# Altium schematic symbol library Ultrascale_SchLib.SchLib: 183 symbols (part 1 of 4)
Pins are listed as number, name and electrical type; pins without a type are passive.

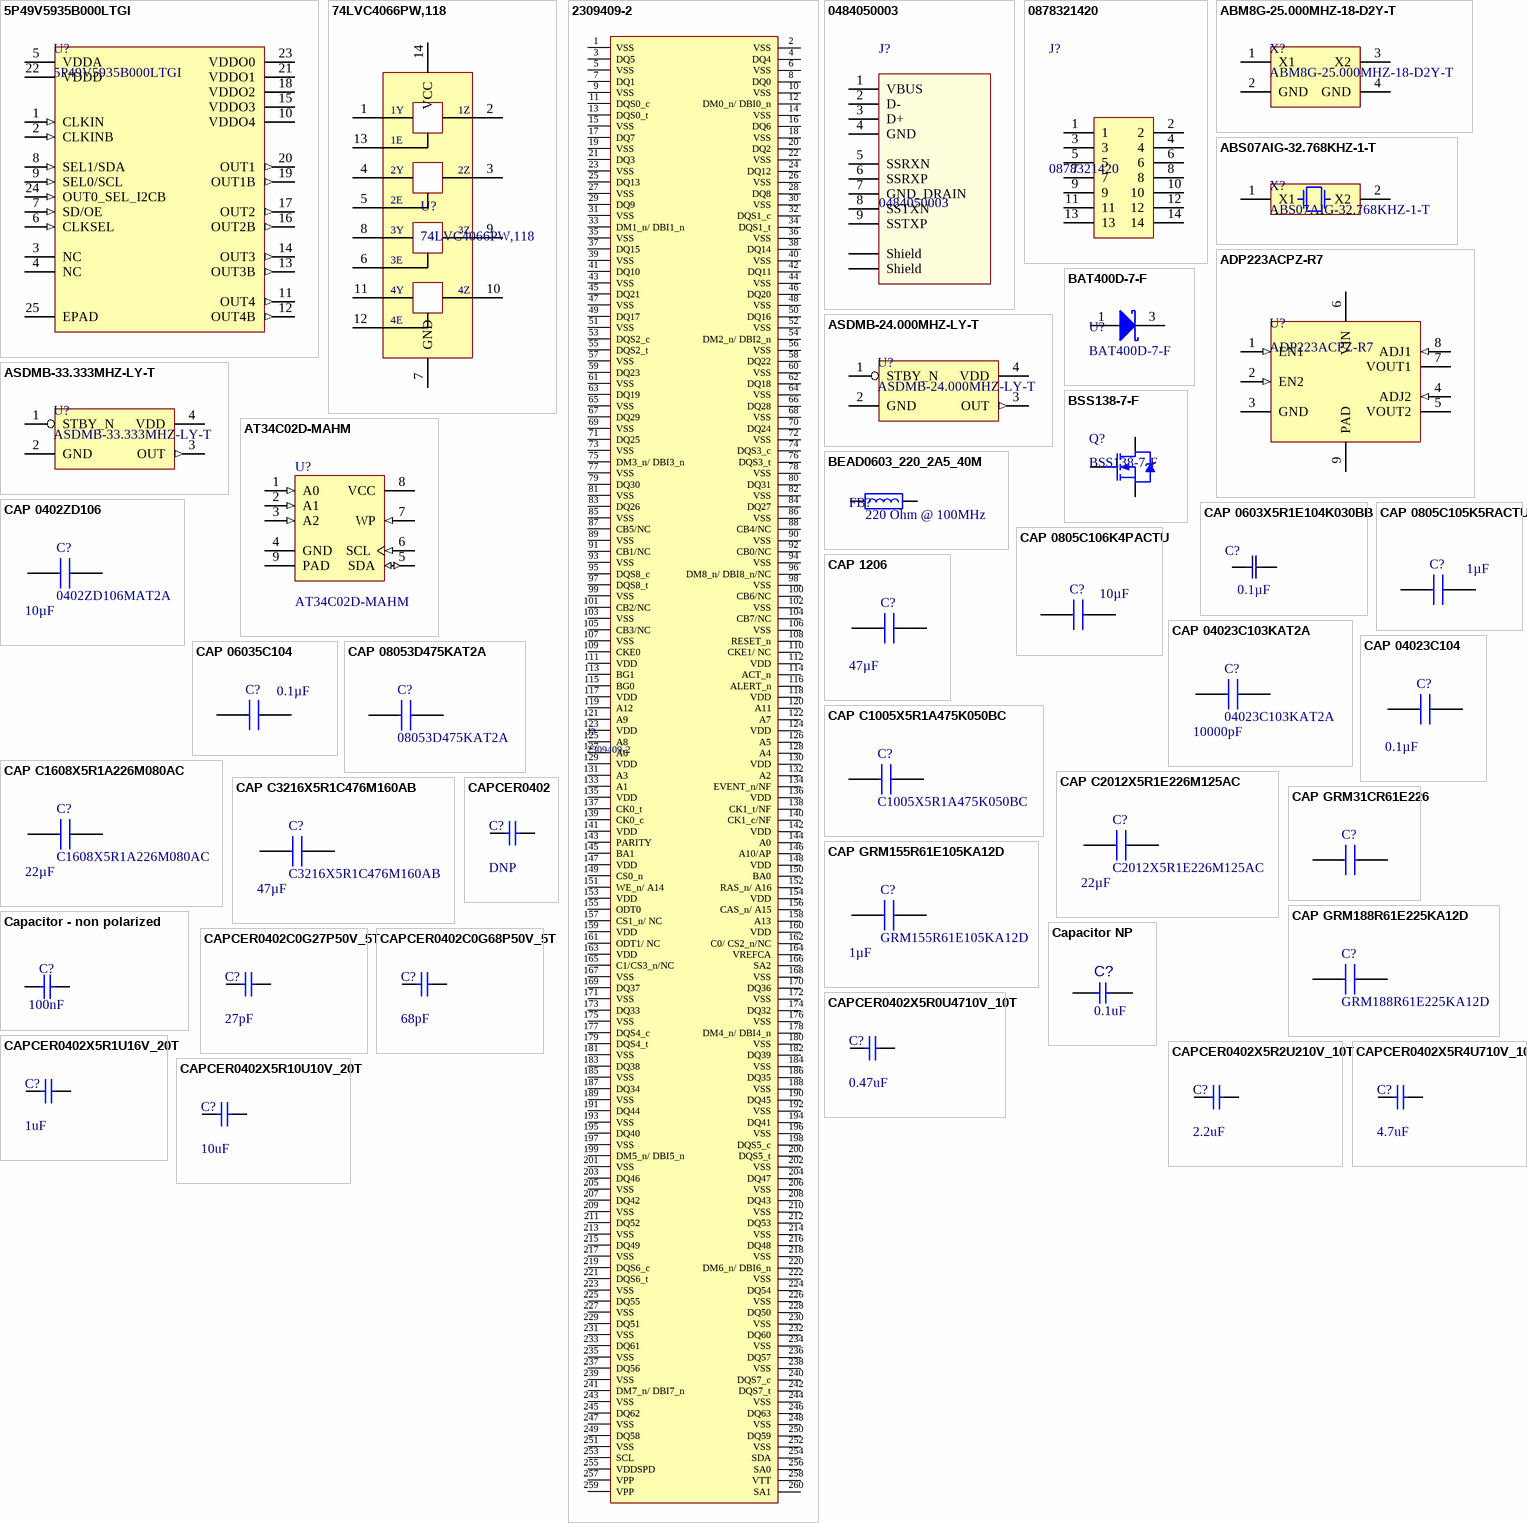
[diagram p0: symbols 5P49V5935B000LTGI to CAPCER0402X5R10U10V_20T]

## 5P49V5935B000LTGI
designator U?
IC CLOCK GENERATOR 24LGA; Manufacturer 1: IDT, Integrated Device Technology Inc; ComponentLink1Description: Datasheet; ComponentLink1URL: C:\Users\Public\Documents\Altium\AD16\Library\PDF\IDT_5P49V5935_DST_20171101.pdf; Supplier 1: Digi-Key; Supplier Part Number 1: 800-3409-ND; Manufacturer Part Number 1: 5P49V5935B000LTGI; Operating Temperature: -40°C ~ 85°C
footprint LGA24_5P49V5935B000LTGI (IDT, IC CLOCK GENERATOR 24LGA, 4mmx4mm)
pins: 1 CLKIN (in), 2 CLKINB (in), 3 NC, 4 NC, 5 VDDA, 6 CLKSEL (in), 7 SD/OE (in), 8 SEL1/SDA (in), 9 SEL0/SCL (in), 10 VDDO4, 11 OUT4 (out), 12 OUT4B (out), 13 OUT3B (out), 14 OUT3 (out), 15 VDDO3, 16 OUT2B (out), 17 OUT2 (out), 18 VDDO2, 19 OUT1B (out), 20 OUT1 (out), 21 VDDO1, 22 VDDD, 23 VDDO0, 24 OUT0_SEL_I2CB (in), 25 EPAD

## 74LVC4066PW,118
designator U?
IC SWITCH QUAD SPST 14TSSOP; Manufacturer: Nexperia USA Inc.; Switch Circuit: SPST - NO; Multiplexer/Demultiplexer Circuit: 1:1; On-State Resistance (Max): 10 Ohm; Voltage - Supply, Single (V+): 1.65 V ~ 5.5 V; Switch Time (Ton, Toff) (Max): 3.9ns, 5ns; -3db Bandwidth: 500MHz; Charge Injection: 7.5pC; Channel Capacitance (CS(off), CD(off)): 8pF; Current - Leakage (IS(off)) (Max): 5µA; Crosstalk: -56dB @ 1MHz; Supplier 1: Digi-Key; Manufacturer Part Number: 74LVC4066PW,118; RoHS: RoHS Compliant; Category: Integrated Circuits (ICs); Stock 1: 12914; Pricing 1: 1=0.78, 10=0.687, 100=0.5266, 500=0.41632, 1000=0.33306 (USD); Packaging: Cut Tape (CT); Part Status: Active; Channel-to-Channel Matching (&Delta;Ron): -; Voltage - Supply, Dual (V±): -; Operating Temperature: -40°C ~ 125°C (TA); Package / Case: 14-TSSOP (0.173", 4.40mm Width); Supplier Device Package: 14-TSSOP; ComponentLink1URL: http://assets.nexperia.com/documents/data-sheet/74LVC4066.pdf; ComponentLink1Description: http://assets.nexperia.com/documents/data-sheet/74LVC4066.pdf; Supplier Part Number 1: 1727-7306-1-ND
pins: 1 (power), 2 (power), 3 (power), 4 (power), 5 (power), 6 (power), 7 GND (power), 8 (power), 9 (power), 10 (power), 11 (power), 12 (power), 13 (power), 14 VCC (power)
text: 1Y; 1Z; 1E; 2Y; 2Z; 2E; 3Y; 3Z; 3E; 4Y; 4Z; 4E

## 2309409-2
designator J?
DDR4 SODIMM 260P 5.2H STD; ComponentLink1Description: Datasheet; ComponentLink1URL: C:\Users\Public\Documents\Altium\AD16\Library\PDF\ENG_CD_2309409_3.pdf; Operating Temperature: -55 – 85 °C; Height: 5.2mm
footprint DDR4_SODIMM_MATING (REF: TE 2309409-4)
pins: 1 VSS (power), 2 VSS (power), 3 DQ5 (power), 4 DQ4 (power), 5 VSS (power), 6 VSS (power), 7 DQ1 (power), 8 DQ0 (power), 9 VSS (power), 10 VSS (power), 11 DQS0_c (power), 12 DM0_n/ DBI0_n (power), 13 DQS0_t (power), 14 VSS (power), 15 VSS (power), 16 DQ6 (power), 17 DQ7 (power), 18 VSS (power), 19 VSS (power), 20 DQ2 (power), 21 DQ3 (power), 22 VSS (power), 23 VSS (power), 24 DQ12 (power), 25 DQ13 (power), 26 VSS (power), 27 VSS (power), 28 DQ8 (power), 29 DQ9 (power), 30 VSS (power), 31 VSS (power), 32 DQS1_c (power), 33 DM1_n/ DBI1_n (power), 34 DQS1_t (power), 35 VSS (power), 36 VSS (power), 37 DQ15 (power), 38 DQ14 (power), 39 VSS (power), 40 VSS (power), 41 DQ10 (power), 42 DQ11 (power), 43 VSS (power), 44 VSS (power), 45 DQ21 (power), 46 DQ20 (power), 47 VSS (power), 48 VSS (power), 49 DQ17 (power), 50 DQ16 (power), 51 VSS (power), 52 VSS (power), 53 DQS2_c (power), 54 DM2_n/ DBI2_n (power), 55 DQS2_t (power), 56 VSS (power), 57 VSS (power), 58 DQ22 (power), 59 DQ23 (power), 60 VSS (power), 61 VSS (power), 62 DQ18 (power), 63 DQ19 (power), 64 VSS (power), 65 VSS (power), 66 DQ28 (power), 67 DQ29 (power), 68 VSS (power), 69 VSS (power), 70 DQ24 (power), 71 DQ25 (power), 72 VSS (power), 73 VSS (power), 74 DQS3_c (power), 75 DM3_n/ DBI3_n (power), 76 DQS3_t (power), 77 VSS (power), 78 VSS (power), 79 DQ30 (power), 80 DQ31 (power), 81 VSS (power), 82 VSS (power), 83 DQ26 (power), 84 DQ27 (power), 85 VSS (power), 86 VSS (power), 87 CB5/NC (power), 88 CB4/NC (power), 89 VSS (power), 90 VSS (power), 91 CB1/NC (power), 92 CB0/NC (power), 93 VSS (power), 94 VSS (power), 95 DQS8_c (power), 96 DM8_n/ DBI8_n/NC (power), 97 DQS8_t (power), 98 VSS (power), 99 VSS (power), 100 CB6/NC (power), 101 CB2/NC (power), 102 VSS (power), 103 VSS (power), 104 CB7/NC (power), 105 CB3/NC (power), 106 VSS (power), 107 VSS (power), 108 RESET_n (power), 109 CKE0 (power), 110 CKE1/ NC (power), 111 VDD (power), 112 VDD (power), 113 BG1 (power), 114 ACT_n (power), 115 BG0 (power), 116 ALERT_n (power), 117 VDD (power), 118 VDD (power), 119 A12 (power), 120 A11 (power), 121 A9 (power), 122 A7 (power), 123 VDD (power), 124 VDD (power), 125 A8 (power), 126 A5 (power), 127 A6 (power), 128 A4 (power), 129 VDD (power), 130 VDD (power), 131 A3 (power), 132 A2 (power), 133 A1 (power), 134 EVENT_n/NF (power), 135 VDD (power), 136 VDD (power), 137 CK0_t (power), 138 CK1_t/NF (power), 139 CK0_c (power), 140 CK1_c/NF (power), 141 VDD (power), 142 VDD (power), 143 PARITY (power), 144 A0 (power), 145 BA1 (power), 146 A10/AP (power), 147 VDD (power), 148 VDD (power), 149 CS0_n (power), 150 BA0 (power), 151 WE_n/ A14 (power), 152 RAS_n/ A16 (power), 153 VDD (power), 154 VDD (power), 155 ODT0 (power), 156 CAS_n/ A15 (power), 157 CS1_n/ NC (power), 158 A13 (power), 159 VDD (power), 160 VDD (power), 161 ODT1/ NC (power), 162 C0/ CS2_n/NC (power), 163 VDD (power), 164 VREFCA (power), 165 C1/CS3_n/NC (power), 166 SA2 (power), 167 VSS (power), 168 VSS (power), 169 DQ37 (power), 170 DQ36 (power), 171 VSS (power), 172 VSS (power), 173 DQ33 (power), 174 DQ32 (power), 175 VSS (power), 176 VSS (power), 177 DQS4_c (power), 178 DM4_n/ DBI4_n (power), 179 DQS4_t (power), 180 VSS (power), 181 VSS (power), 182 DQ39 (power), 183 DQ38 (power), 184 VSS (power), 185 VSS (power), 186 DQ35 (power), 187 DQ34 (power), 188 VSS (power), 189 VSS (power), 190 DQ45 (power), 191 DQ44 (power), 192 VSS (power), 193 VSS (power), 194 DQ41 (power), 195 DQ40 (power), 196 VSS (power), 197 VSS (power), 198 DQS5_c (power), 199 DM5_n/ DBI5_n (power), 200 DQS5_t (power), 201 VSS (power), 202 VSS (power), 203 DQ46 (power), 204 DQ47 (power), 205 VSS (power), 206 VSS (power), 207 DQ42 (power), 208 DQ43 (power), 209 VSS (power), 210 VSS (power), 211 DQ52 (power), 212 DQ53 (power), 213 VSS (power), 214 VSS (power), 215 DQ49 (power), 216 DQ48 (power), 217 VSS (power), 218 VSS (power), 219 DQS6_c (power), 220 DM6_n/ DBI6_n (power), 221 DQS6_t (power), 222 VSS (power), 223 VSS (power), 224 DQ54 (power), 225 DQ55 (power), 226 VSS (power), 227 VSS (power), 228 DQ50 (power), 229 DQ51 (power), 230 VSS (power), 231 VSS (power), 232 DQ60 (power), 233 DQ61 (power), 234 VSS (power), 235 VSS (power), 236 DQ57 (power), 237 DQ56 (power), 238 VSS (power), 239 VSS (power), 240 DQS7_c (power), 241 DM7_n/ DBI7_n (power), 242 DQS7_t (power), 243 VSS (power), 244 VSS (power), 245 DQ62 (power), 246 DQ63 (power), 247 VSS (power), 248 VSS (power), 249 DQ58 (power), 250 DQ59 (power), 251 VSS (power), 252 VSS (power), 253 SCL (power), 254 SDA (power), 255 VDDSPD (power), 256 SA0 (power), 257 VPP (power), 258 VTT (power), 259 VPP (power), 260 SA1 (power)

## 0484050003
designator J?
USB 3.0 RA REC TH TYPE A; Manufacturer 1: Molex, LLC; Number of Contacts: 9; Opearating Temperature: -20°C ~ 85°C; ComponentLink1Description: Datasheet; ComponentLink1URL: C:\Users\Public\Documents\Altium\AD16\Library\PDF\484050003_sd.pdf; Supplier 1: Digi-Key; Manufacturer Part Number 1: 0484050003; Supplier Part Number 1: WM10419-ND
footprint USB30_RA_0484050003 (USB 3.0 RA REC TH TYPE A)
pins: 1 VBUS, 2 D-, 3 D+, 4 GND, 5 SSRXN, 6 SSRXP, 7 GND_DRAIN, 8 SSTXN, 9 SSTXP, MH1 Shield, MH2 Shield

## 0878321420
designator J?
CONN HEADER 14POS 2MM VERT SMD; Manufacturer 1: Molex, LLC; Number of Positions: 14; Supplier 1: Digi-Key; Manufacturer Part Number 1: 0878321420; Pitch: 2mm; Number of Rows: 2; ComponentLink1URL: C:\Users\Public\Documents\Altium\AD16\Library\PDF\878322620_sd.pdf; ComponentLink1Description: Drawing; Supplier Part Number 1: 952-1809-ND
footprint 0878321420 (CONN HEADER 14POS 2MM VERT SMD)
pins: 1 (power), 2 (power), 3 (power), 4 (power), 5 (power), 6 (power), 7 (power), 8 (power), 9 (power), 10 (power), 11 (power), 12 (power), 13 (power), 14 (power)

## ABM8G-25.000MHZ-18-D2Y-T
designator X?
CRYSTAL 25.0000MHZ 18PF SMD; Manufacturer 1: Abracon LLC; Frequency: 25MHz; Frequency Stability: ±30ppm; ComponentLink1Description: Datasheet; ComponentLink1URL: C:\Users\Public\Documents\Altium\AD16\Library\PDF\ABM8G.pdf; Supplier 1: Digi-Key; Supplier Part Number 1: 535-10275-1-ND; Manufacturer Part Number 1: ABM8G-25.000MHZ-18-D2Y-T; Operating Temperature: -40°C ~ 85°C; Load Capacitance: 18pF
footprint ABM8G (Abracon ABM8G Series Crystals)
pins: 1 X1, 2 GND, 3 X2, 4 GND

## ABS07AIG-32.768KHZ-1-T
designator X?
CRYSTAL 32.768KHZ 12.5PF SMD; Manufacturer 1: Abracon LLC; Frequency Tolerance: ±10ppm; ComponentLink1Description: Datasheet; ComponentLink1URL: C:\Users\Public\Documents\Altium\AD16\Library\PDF\ABS07.pdf; Supplier 1: Digi-Key; Supplier Part Number 1: 535-13352-1-ND; Manufacturer Part Number 1: ABS07AIG-32.768KHZ-1-T; Operating Temperature: -40°C ~ 125°C; Load Capacitance: 12.5pF; Frequency: 32.768kHz
footprint ABS07 (Abracon ABS07 Series Crystals)
pins: 1 X1, 2 X2

## ADP223ACPZ-R7
designator U?
IC REG LIN POS ADJ 300MA 8LFCSP; Manufacturer 1: Analog Devices Inc.; Voltage - Input (Max): 5.5V; ComponentLink1Description: Datasheet; ComponentLink1URL: C:\Users\Public\Documents\Altium\AD16\Library\PDF\ADP222_223_224_225.pdf; Supplier 1: Digi-Key; Supplier Part Number 1: ADP223ACPZ-R7CT-ND; Manufacturer Part Number 1: ADP223ACPZ-R7; Operating Temperature: -40°C ~ 125°C; Current - Output: 300mA
footprint CP-8-10_LFCSP_UD (Analog Devices CP-8-10 2mmx2mm Package)
pins: 1 EN1 (in), 2 EN2 (in), 3 GND, 4 ADJ2 (in), 5 VOUT2, 6 VIN, 7 VOUT1, 8 ADJ1 (in), 9 PAD

## ASDMB-24.000MHZ-LY-T
designator U?
OSC MEMS 24.000MHZ CMOS SMD; Manufacturer 1: Abracon LLC; Frequency: 24MHz; Frequency Stability: ±10ppm; ComponentLink1Description: Datasheet; ComponentLink1URL: C:\Users\Public\Documents\Altium\AD16\Library\PDF\ASDMB.pdf; Supplier 1: Digi-Key; Supplier Part Number 1: 535-11186-1-ND; Manufacturer Part Number 1: ASDMB-24.000MHZ-LY-T; Operating Temperature: -40°C ~ 85°C
footprint ASDMB (Abracon ASDMB Series Oscillators)
pins: 1 STBY_N, 2 GND, 3 OUT (out), 4 VDD

## ASDMB-33.333MHZ-LY-T
designator U?
OSC MEMS 33.333MHZ CMOS SMD; Manufacturer 1: Abracon LLC; Frequency Stability: ±10ppm; ComponentLink1Description: Datasheet; ComponentLink1URL: C:\Users\Public\Documents\Altium\AD16\Library\PDF\ASDMB.pdf; Supplier 1: Digi-Key; Supplier Part Number 1: 535-11196-1-ND; Manufacturer Part Number 1: ASDMB-33.333MHZ-LY-T; Operating Temperature: -40°C ~ 85°C; Frequency: 33.333MHz
footprint ASDMB (Abracon ASDMB Series Oscillators)
pins: 1 STBY_N, 2 GND, 3 OUT (out), 4 VDD

## AT34C02D-MAHM
designator U?
IC EEPROM 2KBIT 1MHZ 8UDFN; Manufacturer 1: Microchip Technology; Manufacturer Part Number 1: AT34C02D-MAHM-T; Code_JEDEC: MS-012-AA; Code_IPC: SOIC127P600-8; ComponentLink1Description: Datasheet; ComponentLink1URL: C:\Users\Public\Documents\Altium\AD16\Library\PDF\Atmel-8781-SEEPROM-AT34C02D-Datasheet.pdf; Supplier 1: Digikey; Supplier Part Number 1: AT34C02D-MAHM-TTR-ND; Operating Temperature: -40°C ~ 85°C (TA)
footprint UDFN_9 (UDFN, 8-Leads, Body 3x2mm, Pitch 0.5mm)
pins: 1 A0 (in), 2 A1 (in), 3 A2 (in), 4 GND (power), 5 SDA (io), 6 SCL (in), 7 WP (in), 8 VCC (power), 9 PAD (power)

## BAT400D-7-F
designator U?
DIODE SCHOTTKY 40V 500MA SOT23-3; Manufacturer 1: Diodes Incorporated; ComponentLink1Description: Datasheet; ComponentLink1URL: C:\Users\Public\Documents\Altium\AD16\Library\PDF\ds30182.pdf; Supplier 1: Digi-Key; Supplier Part Number 1: BAT400D-FDICT-ND; Manufacturer Part Number 1: BAT400D-7-F; Operating Temperature: -40°C ~ 125°C
footprint BAT400D-7-F _SOT23 (SOT23, 3-Leads, Body 2.9x1.3 mm, Pitch 0.95 mm)
pins: 1 A, 3 K

## BEAD0603_220_2A5_40M
designator FB?  Impedance @ Frequency: 220 Ohm @ 100MHz
FERRITE BEAD 220 OHM 0603 1LN; Manufacturer 1: Murata Electronics North America; Manufacturer Part Number 1: BLM18SG221TN1D; Current Rating (Max): 2.5A; DC Resistance (DCR) (Max): 40 mohm; Package: 0603; ComponentLink1Description: Datasheet; ComponentLink1URL: C:\Users\Public\Documents\Altium\AD16\Library\PDF\ENFA0003.pdf; Supplier 1: Digi-Key; Supplier Part Number 1: 490-5225-1-ND; Operating Temperature: -55°C ~ 125°C
footprint INDC1608N_0603 (Chip Inductor, Body 1.6x0.8mm, IPC Medium Density)
pins: 1, 2

## BSS138-7-F
designator Q?
MOSFET N-CH 50V 200MA SOT23-3; Manufacturer 1: Diodes Incorporated; ComponentLink1Description: Datasheet; ComponentLink1URL: C:\Users\Public\Documents\Altium\AD16\Library\PDF\ds30144.pdf; Supplier 1: Digi-Key; Supplier Part Number 1: BSS138-FDICT-ND; Manufacturer Part Number 1: BSS138-7-F; Operating Temperature: -55°C ~ 150°C (TJ)
footprint DIODES_SOT23 (SOT23, 3-Leads, Body 2.9x1.3 mm, Pitch 0.95 mm)
pins: D, G, S

## CAP 0402ZD106
designator C?, comment 0402ZD106MAT2A  value 10µF
CAP CER 10UF 10V X5R 0402; Manufacturer_Name: AVX; Geometry.Height: 0.56mm; Detailed Description: 10µF ±20% 10V Ceramic Capacitor X5R 0402 (1005 Metric); Tolerance: ±20%; Manufacturer_Part_Number: 0402ZD106MAT2A; Datasheet Link: http://www.mouser.com/catalog/supplier/library/pdf/AVXSurfaceMountCeramic.pdf; Digi-Key Part Number: 478-10052-1-ND; Voltage - Rated: 10V; Temperature Coefficient: X5R; Operating Temperature: -55°C ~ 85°C; Mounting Type: Surface Mount, MLCC; Supplier 1: Digi-Key; Supplier Part Number 1: 478-10052-2-ND
footprint CAP 0402ZD106
pins: 1, 2

## CAP 0603X5R1E104K030BB
designator C?  value 0.1µF  (hidden comment: *)
CAP CER 0.1UF 25V 10% X5R 0201; Manufacturer_Part_Number: C0603X5R1E104K030BB; Manufacturer: TDK Corporation; Detailed Description: 0.1µF ±10% 25V Ceramic Capacitor X5R 0201 (0603 Metric); Digi-Key Part Number: 445-13671-1-ND; Tolerance: ±10%; Voltage - Rated: 25V; Temperature Coefficient: X5R; Operating Temperature: -55°C ~ 85°C; Features: Low ESL; Applications: General Purpose; Mounting Type: Surface Mount, MLCC; Supplier 1: Digi-Key; Supplier Part Number 1: 445-13671-1-ND
footprint CAP_0603
pins: 1, 2

## CAP 0805C105K5RACTU
designator C?  value 1µF  (hidden comment: *)
Capacitor 0805 10uF 16V Kemet 0805 C 10F Ceramic Multilayer Capacitor, 16 V dc, +85C, X5R Dielectric, 10%; Manufacturer_Part_Number: C0805C105K5RACTU; Geometry.Height: 0.88mm; Detailed Description: 10µF ±10% 16V Ceramic Capacitor X5R 0805 (2012 Metric); Voltage - Rated: 50V; Temperature Coefficient: X7R; Supplier_Name: RS; Manufacturer_Name: Kemet; Allied_Number: *; Other Part Number: *; Datasheet Link: http://docs-europe.electrocomponents.com/webdocs/116e/0900766b8116eb59.pdf; 3D Package: *; Digi-Key Part Number: 399-7409-1-ND; Tolerance: ±10%; Operating Temperature: -55°C ~ 125°C; Features: Low ESL; Applications: General Purpose; Mounting Type: Surface Mount, MLCC; Supplier 1: Digi-Key; Supplier Part Number 1: 399-7409-1-ND
footprint C0805C105 (C0805C105K5RACTU)
pins: 1, 2

## CAP 0805C106K4PACTU
designator C?  value 10µF  (hidden comment: *)
Capacitor 0805 10uF 16V Kemet 0805 C 10F Ceramic Multilayer Capacitor, 16 V dc, +85C, X5R Dielectric, 10%; Manufacturer_Part_Number: C0805C106K4PACTU; Geometry.Height: 0.88mm; Detailed Description: 10µF ±10% 16V Ceramic Capacitor X5R 0805 (2012 Metric); Supplier_Name: RS; RS Part Number: 6911161; Manufacturer_Name: Kemet; Allied_Number: *; Other Part Number: *; Datasheet Link: http://docs-europe.electrocomponents.com/webdocs/116e/0900766b8116eb59.pdf; 3D Package: *; Digi-Key Part Number: 399-8012-1-ND; Tolerance: ±10%; Voltage - Rated: 16V; Temperature Coefficient: X5R; Operating Temperature: -55°C ~ 85°C; Features: Low ESL; Applications: General Purpose; Mounting Type: Surface Mount, MLCC; Supplier 1: Digi-Key; Supplier Part Number 1: 399-8012-1-ND
footprint CAP 0805 (C0805C106K4PACTU)
pins: 1, 2

## CAP 1206
designator C?, comment value 47µF  (hidden comment: C3216X5R1C476M160AB)
CAP CER 47UF 16V X5R 1206; Manufacturer_Name: TDK Corporation; Geometry.Height: 1.8mm; Detailed Description: 47µF ±20% 16V Ceramic Capacitor X5R 1206 (3216 Metric); Tolerance: ±20%; Supplier_Name: RS; RS Part Number: 9039158P; Manufacturer_Part_Number: C3216X5R1C476M160AB; Allied_Number: *; Other Part Number: *; Datasheet Link: https://product.tdk.com/info/en/catalog/datasheets/mlcc_commercial_midvoltage_en.pdf; 3D Package: *; Digi-Key Part Number: 445-6003-1-ND; Voltage - Rated: 16V; Temperature Coefficient: X5R; Operating Temperature: -55°C ~ 85°C; Mounting Type: Surface Mount, MLCC; Supplier 1: Digi-Key; Supplier Part Number 1: 445-6003-1-ND
footprint CAPC3216X180N
pins: 1, 2

## CAP 04023C103KAT2A
designator C?, comment 04023C103KAT2A  Capacitance: 10000pF
Capacitor MLCC 0402 10nF 25V AVX 0402 Standard 10nF Ceramic Multilayer Capacitor, 25 V dc, +125C, X7R Dielectric, 10% SMD; Geometry.Height: 0.56mm; Detailed Description: 10000pF ±10% 25V Ceramic Capacitor X7R 0402 (1005 Metric); Manufacturer_Name: AVX; Manufacturer_Part_Number: 04023C103KAT2A; Datasheet Link: http://www.mouser.com/catalog/supplier/library/pdf/AVXSurfaceMountCeramic.pdf; Digi-Key Part Number: 478-1113-1-ND; Tolerance: ±10%; Voltage - Rated: 25V; Temperature Coefficient: X7R; Operating Temperature: -55°C ~ 125°C; Mounting Type: Surface Mount, MLCC; Package / Case: 0402 (1005 Metric); Size / Dimension: 0.039" L x 0.020" W (1.00mm x 0.50mm); Thickness (Max): 0.022" (0.56mm); Supplier 1: Digi-Key; Supplier Part Number 1: 478-1113-1-ND
footprint CAPC1005X56N
pins: 1, 2

## CAP 04023C104
designator C?, comment value 0.1µF  (hidden comment: 04023C104KAT2A)
CAP CER 0.1UF 25V X7R 0402; Manufacturer_Name: AVX Corporation; Geometry.Height: 0.56mm; Detailed Description: 0.1µF ±10% 25V Ceramic Capacitor X7R 0402 (1005 Metric); Tolerance: ±10%; Manufacturer_Part_Number: 04023C104KAT2A; Allied_Number: *; Datasheet Link: http://datasheets.avx.com/X7RDielectric.pdf; 3D Package: *; Digi-Key Part Number: 478-7868-1-ND; Voltage - Rated: 25V; Temperature Coefficient: X7R; Operating Temperature: -55°C ~ 125°C; Mounting Type: Surface Mount, MLCC; Supplier 1: Digi-Key; Supplier Part Number 1: 478-7868-1-ND
footprint CAP 04023C104 (CAP CER 0.1UF 25V X7R 0402)
pins: 1, 2

## CAP 06035C104
designator C?, comment value 0.1µF  (hidden comment: 06035C104KAT2A)
CAP CER 0.1UF 50V 10% X7R 0603; Manufacturer_Name: AVX Corporation; Allied_Number: 70002065; Geometry.Height: 1mm; Detailed Description: 0.1µF ±10% 50V Ceramic Capacitor X7R 0603 (1608 Metric); Manufacturer_Part_Number: 06035C104KAT2A; Datasheet Link: http://datasheets.avx.com/X7RDielectric.pdf; Digi-Key Part Number: 478-5052-1-ND; Tolerance: ±10%; Voltage - Rated: 50V; Temperature Coefficient: X7R; Operating Temperature: -55°C ~ 125°C; Mounting Type: Surface Mount, MLCC; Supplier 1: Digi-Key; Supplier Part Number 1: 478-5052-1-ND
footprint CAP 06035C104 (CAP CER 0.1UF 50V 10% X7R 0603)
pins: 1, 2

## CAP 08053D475KAT2A
designator C?, comment 08053D475KAT2A
AVX 4.7uF  /-10% 25 V dc X5R Dielectric SMD Ceramic Multilayer Capacitor 0805; Geometry.Height: 1.4mm; Detailed Description: 4.7µF ±10% 25V Ceramic Capacitor X5R 0805 (2012 Metric); Capacitance: 4.7µF; Tolerance: ±10%; Voltage - Rated: 25V; Manufacturer_Name: AVX; Manufacturer_Part_Number: 08053D475KAT2A; Datasheet Link: http://datasheets.avx.com/cx5r.pdf; Digi-Key Part Number: 478-6043-1-ND; Temperature Coefficient: X5R; Operating Temperature: -55°C ~ 85°C; Mounting Type: Surface Mount, MLCC; Package / Case: 0805 (2012 Metric); Size / Dimension: 0.079" L x 0.049" W (2.01mm x 1.25mm); Thickness (Max): 0.055" (1.40mm); Supplier 1: Digi-Key; Supplier Part Number 1: 478-6043-1-ND
footprint CAPC2012X140N
pins: 1, 2

## CAP C1005X5R1A475K050BC
designator C?, comment C1005X5R1A475K050BC
Capacitor MLCC 0402 10V 4.7uF X5R; Manufacturer_Name: TDK; Geometry.Height: 0.55mm; Detailed Description: 4.7µF ±10% 10V Ceramic Capacitor X5R 0402 (1005 Metric); Capacitance: 4.7µF; Tolerance: ±10%; Manufacturer_Part_Number: C1005X5R1A475K050BC; Datasheet Link: https://product.tdk.com/info/en/catalog/datasheets/mlcc_commercial_midvoltage_en.pdf; Digi-Key Part Number: 445-13820-1-ND; Voltage - Rated: 10V; Temperature Coefficient: X5R; Operating Temperature: -55°C ~ 85°C; Mounting Type: Surface Mount, MLCC; Package / Case: 0402 (1005 Metric); Size / Dimension: 0.039" L x 0.020" W (1.00mm x 0.50mm); Thickness (Max): 0.022" (0.55mm); Supplier 1: Digi-Key; Supplier Part Number 1: 445-13820-1-ND
footprint CAPC1005X5 (CAP CER 4.7UF 10V 10% X5R 0402)
pins: 1, 2

## CAP C1608X5R1A226M080AC
designator C?, comment C1608X5R1A226M080AC  Capacitance: 22µF
Capacitor MLCC 0603 10V 22uF X5R; Manufacturer_Name: TDK; Geometry.Height: 0.8mm; Detailed Description: 22µF ±20% 10V Ceramic Capacitor X5R 0603 (1608 Metric); Tolerance: ±20%; Manufacturer_Part_Number: C1608X5R1A226M080AC; Datasheet Link: https://product.tdk.com/info/en/catalog/datasheets/mlcc_commercial_midvoltage_en.pdf; Digi-Key Part Number: 445-9077-1-ND; Voltage - Rated: 10V; Temperature Coefficient: X5R; Operating Temperature: -55°C ~ 85°C; Mounting Type: Surface Mount, MLCC; Package / Case: 0603 (1608 Metric); Size / Dimension: 0.063" L x 0.032" W (1.60mm x 0.80mm); Thickness (Max): 0.039" (1.00mm); Supplier 1: Digi-Key; Supplier Part Number 1: 445-9077-1-ND
footprint CAPC1608X80N
pins: 1, 2

## CAP C2012X5R1E226M125AC
designator C?, comment C2012X5R1E226M125AC  Capacitance: 22µF
Capacitors MLCC - SMD/SMT 0805 22uF 25volts X5R +/-20% GP; Manufacturer_Name: TDK; Geometry.Height: 1.45mm; Tolerance: ±20%; Voltage - Rated: 25V; Manufacturer_Part_Number: C2012X5R1E226M125AC; Datasheet Link: https://product.tdk.com/info/en/catalog/datasheets/mlcc_commercial_midvoltage_en.pdf; Digi-Key Part Number: 445-9112-1-ND; Series: C; Temperature Coefficient: X5R; Operating Temperature: -55°C ~ 85°C; Mounting Type: Surface Mount, MLCC; Package / Case: 0805 (2012 Metric); Size / Dimension: 0.079" L x 0.049" W (2.00mm x 1.25mm); Thickness (Max): 0.057" (1.45mm); Supplier 1: Digi-Key; Supplier Part Number 1: 445-9112-1-ND
footprint CAPC2012X145N
pins: 1, 2

## CAP C3216X5R1C476M160AB
designator C?, comment C3216X5R1C476M160AB  Capacitance: 47µF
Multilayer Ceramic Capacitors MLCC - SMD/SMT CAP CER 47UF 16V X5R 20% 1206; Manufacturer_Name: TDK; Geometry.Height: 1.8mm; Detailed Description: 47µF ±20% 16V Ceramic Capacitor X5R 1206 (3216 Metric); Manufacturer_Part_Number: C3216X5R1C476M160AB; Datasheet Link: https://product.tdk.com/info/en/catalog/datasheets/mlcc_commercial_midvoltage_en.pdf; Digi-Key Part Number: 445-6003-1-ND; Tolerance: ±20%; Voltage - Rated: 16V; Temperature Coefficient: X5R; Operating Temperature: -55°C ~ 85°C; Mounting Type: Surface Mount, MLCC; Package / Case: 1206 (3216 Metric); Size / Dimension: 0.126" L x 0.063" W (3.20mm x 1.60mm); Thickness (Max): 0.071" (1.80mm); Supplier 1: Digi-Key; Supplier Part Number 1: 445-6003-1-ND
footprint CAPC3216X180N
pins: 1, 2

## CAP GRM31CR61E226
designator C?, comment GRM31CR61E226KE15L  (value not drawn)
CAP, MLCC, X5R, 22UF, 25V, 1206; Manufacturer_Name: Murata Electronics; Geometry.Height: 1.8mm; Detailed Description: 22µF ±10% 25V Ceramic Capacitor X5R 1206 (3216 Metric); Value: 22µF; Tolerance: ±10%; Manufacturer_Part_Number: GRM31CR61E226KE15L; Datasheet Link: http://www.murata.com/~/media/webrenewal/support/library/catalog/products/capacitor/mlcc/c02e.pdf; Digi-Key Part Number: 490-5527-1-ND; Series: GRM; Voltage - Rated: 25V; Temperature Coefficient: X5R; Operating Temperature: -55°C ~ 85°C; Applications: General Purpose; Mounting Type: Surface Mount, MLCC; Supplier 1: Digi-Key; Supplier Part Number 1: 490-5527-1-ND
footprint CAP GRM31CR61E226
pins: 1, 2

## CAP GRM155R61E105KA12D
designator C?, comment GRM155R61E105KA12D  Capacitance: 1µF
CAP, MLCC, X5R, 1UF, 25V, 0402; Manufacturer_Name: Murata Electronics; Geometry.Height: 0.55mm; Detailed Description: 1µF ±10% 25V Ceramic Capacitor X5R 0402 (1005 Metric); Tolerance: ±10%; Manufacturer_Part_Number: GRM155R61E105KA12D; Datasheet Link: http://www.murata.com/~/media/webrenewal/support/library/catalog/products/capacitor/mlcc/c02e.pdf; Digi-Key Part Number: 490-10017-1-ND; Series: GRM; Voltage - Rated: 25V; Temperature Coefficient: X5R; Operating Temperature: -55°C ~ 85°C; Mounting Type: Surface Mount, MLCC; Package / Case: 0402 (1005 Metric); Size / Dimension: 0.039" L x 0.020" W (1.00mm x 0.50mm); Thickness (Max): 0.022" (0.55mm); Supplier 1: Digi-Key; Supplier Part Number 1: 490-10017-1-ND
footprint CAPC1005X55N
pins: 1, 2

## CAP GRM188R61E225KA12D
designator C?, comment GRM188R61E225KA12D
Ceramic Capacitors 0603 2.2uF 25V Murata 0603 GRM 2.2F Ceramic Multilayer Capacitor, 25 V dc X5R Dielectric 10% SMD; Manufacturer_Name: Murata Electronics; Geometry.Height: 0.9mm; Detailed Description: 2.2µF ±10% 25V Ceramic Capacitor X5R 0603 (1608 Metric); Capacitance: 2.2µF; Manufacturer_Part_Number: GRM188R61E225KA12D; Datasheet Link: http://www.murata.com/~/media/webrenewal/support/library/catalog/products/capacitor/mlcc/c02e.pdf; Digi-Key Part Number: 490-10731-1-ND; Tolerance: ±10%; Voltage - Rated: 25V; Temperature Coefficient: X5R; Operating Temperature: -55°C ~ 85°C; Mounting Type: Surface Mount, MLCC; Package / Case: 0603 (1608 Metric); Size / Dimension: 0.063" L x 0.032" W (1.60mm x 0.80mm); Thickness (Max): 0.035" (0.90mm); Supplier 1: Digi-Key; Supplier Part Number 1: 490-10731-1-ND
footprint CAPC1608X90N
pins: 1, 2

## Capacitor - non polarized
designator C?, comment 100nF
Non-polarised capacitor; Part Number: CC0603_100NF_50V_10%_X7R; Part Description: SMD Multilayer Chip Ceramic Capacitor; Manufacturer: MULTICOMP; Manufacturer Part Number: MCB0603R104KCT; Manufacturer1 Part Number: 223858615649; Voltage: 50V; TC: X7R; Tolerance: ±10%; Table: Capacitors SMD; Voltage Rating: 16; Capacitance: 0.1; SVHC: No SVHC (17-Dec-2015); Ceramic Capacitor Case: 0603 [1608 Metric]; Dielectric Characteristic: X7; Product Range: MCB Series; Capacitance Tolerance: ± 10%; Capacitor Terminals: SMD; Component Kind: Standard; Component Type: Standard; Footprint: CAPC1608X87N; Pin Count: 2; Value: 100nF; Status: Preferred; Case: 0603; Mounted: Yes; Socket: No; SMD: Yes; Manufacturer1 Example: PHYCOMP; Manufacturer1 ComponentHeight: 0.87mm; HelpURL: \\cern.ch\dfs\Applications\Altium\Datasheets\CC0603_X7R_PHYCOMP.pdf; Author: CERN DEM JLC; CreateDate: 3.12.2007; LatestRevisionDate: 3.12.2007; RoHS: YES; Packaging: Cut Tape; Operating Temperature Min: -55; MSL: -; Supplier Part Number: 9406140; Operating Temperature Range: -55°C to +125°C<!--FANDB--><div class="features-and-benefits-container"><div class="features-and-benefits-description"><span class="features-benefits-value">The MCB0603R104KCT is a multilayer Ceramic Capacitor with 0603 chip, for general digital circuit. Consists of a conducting material and electrodes. To manufacture a chip-type SMT and achieve miniaturization, high density and high efficiency, ceramic condensers are used. MLCC is made by X7; Supplier: Farnell; Capacitance Tolerance ±: ± 10%; Operating Temperature Max: 125
footprint CAPC1608X87N
pins: 1, 2

## Capacitor NP
designator C?  value 0.1uF  (hidden comment: Capacitor NP)
Capacitor; Manufacturer 1: TDK Corporation; Manufacturer Part Number 1: C1005X7R1H104K050BB; MCHP-ID: CAP1463; Voltage: 50V; Description_: CAP CER 0.1uF 50V 10% X7R SMD 0402; Dev Tools Status: Design; Tolerance: 10%; Temperature Coeffcient: X7R; Type: Ceramic; Owner: Jamus Griego; Populated: YES; Package: 0402; Revision: A; Status: MCL Design; ComponentLink1URL: https://chn-vm-apps.microchip.com/mchprepo/parts/Datasheets/TDKMLCCCapRange.pdf; ComponentLink1Description: Datasheets; Operating Temperature: -55C to +125C; Category: Capacitor; Supplier 1: Digi-Key; Supplier Part Number 1: 445-5932-1-ND; Quantity Override: 1
footprint CAP_C_0402 (Chip Capacitor 2-Leads, Body 1.6x0.8mm, IPC Medium Density)
pins: 1, 2

## CAPCER0402
designator C?, comment DNP
0402 Package Cap Footprint; Package: 0402; ComponentLink1Description: Datasheet; Value: DNP
simulation model CAP (Capacitor)
signal-integrity model Cap
footprint CAPC1005L_0402 (Chip Capacitor, Body 1.0x0.5mm, IPC High Density)
pins: 1, 2

## CAPCER0402C0G27P50V_5T
designator C?, comment 27pF
CAP CER 27PF 50V C0G/NP0 0402; Manufacturer 1: Murata Electronics North America; Manufacturer Part Number 1: GRM1555C1H270JA01D; Tolerance: 5%; Package: 0402; ComponentLink1Description: Datasheet; Value: 27pF; Voltage: 50V; Temperature Coefficient: C0G/NP0; Supplier 1: Digi-Key; Supplier Part Number 1: 490-5869-1-ND; Operating Temperature: -55°C ~ 125°C
simulation model CAP (Capacitor)
signal-integrity model Cap
footprint CAPC1005L_0402 (Chip Capacitor, Body 1.0x0.5mm, IPC High Density)
pins: 1, 2

## CAPCER0402C0G68P50V_5T
designator C?, comment 68pF
CAP CER 68PF 50V C0G/NP0 0402; Manufacturer 1: Murata Electronics North America; Manufacturer Part Number 1: GRM1555C1H680JA01D; Tolerance: 5%; Package: 0402; ComponentLink1Description: Datasheet; Value: 68pF; Voltage: 50V; Temperature Coefficient: C0G/NP0; Supplier 1: Digi-Key; Supplier Part Number 1: 490-5876-1-ND; Operating Temperature: -55°C ~ 125°C
simulation model CAP (Capacitor)
signal-integrity model Cap
footprint CAPC1005L_0402 (Chip Capacitor, Body 1.0x0.5mm, IPC High Density)
pins: 1, 2

## CAPCER0402X5R0U4710V_10T
designator C?, comment 0.47uF
CAP CER 0.47UF 10V X5R 0402; Manufacturer 1: Murata Electronics North America; Manufacturer Part Number 1: GRM155R61A474KE15D; Tolerance: 10%; Package: 0402; ComponentLink1Description: Datasheet; Value: 0.47uF; Voltage: 10V; Temperature Coefficient: X5R; Supplier 1: Digi-Key; Supplier Part Number 1: 490-3264-1-ND; Operating Temperature: -55°C ~ 85°C
simulation model CAP (Capacitor)
signal-integrity model Cap
footprint CAPC1005L_0402 (Chip Capacitor, Body 1.0x0.5mm, IPC High Density)
pins: 1, 2

## CAPCER0402X5R1U16V_20T
designator C?, comment 1uF
CAP CER 1UF 16V X5R 0402; Manufacturer 1: Murata Electronics North America; Manufacturer Part Number 1: GRM155R61C105ME01D; Tolerance: 20%; Package: 0402; ComponentLink1Description: Datasheet; Value: 1uF; Voltage: 16V; Temperature Coefficient: X5R; Supplier 1: Digi-Key; Supplier Part Number 1: 490-10454-1-ND; Operating Temperature: -55°C ~ 85°C
simulation model CAP (Capacitor)
signal-integrity model Cap
footprint CAPC1005L_0402 (Chip Capacitor, Body 1.0x0.5mm, IPC High Density)
pins: 1, 2

## CAPCER0402X5R2U210V_10T
designator C?, comment 2.2uF
CAP CER 2.2UF 10V X5R 0402; Manufacturer 1: Murata Electronics North America; Manufacturer Part Number 1: GRM155R61A225KE95D; Tolerance: 10%; Package: 0402; ComponentLink1Description: Datasheet; Value: 2.2uF; Voltage: 10V; Temperature Coefficient: X5R; Supplier 1: Digi-Key; Supplier Part Number 1: 490-10451-1-ND; Operating Temperature: -55°C ~ 85°C
simulation model CAP (Capacitor)
signal-integrity model Cap
footprint CAPC1005L_0402 (Chip Capacitor, Body 1.0x0.5mm, IPC High Density)
pins: 1, 2

## CAPCER0402X5R4U710V_10T
designator C?, comment 4.7uF
CAP CER 4.7UF 10V X5R 0402; Manufacturer 1: TDK Corporation; Manufacturer Part Number 1: C1005X5R1A475K050BC; Tolerance: 10%; Package: 0402; ComponentLink1Description: Datasheet; Value: 4.7uF; Voltage: 10V; Temperature Coefficient: x5R; Supplier 1: Digi-Key; Supplier Part Number 1: 445-13820-1-ND; Operating Temperature: -55°C ~ 85°C
simulation model CAP (Capacitor)
signal-integrity model Cap
footprint CAPC1005L_0402 (Chip Capacitor, Body 1.0x0.5mm, IPC High Density)
pins: 1, 2

## CAPCER0402X5R10U10V_20T
designator C?, comment 10uF
CAP CER 10UF 10V X5R 0402; Manufacturer 1: Samsung Electro-Mechanics America, Inc.; Manufacturer Part Number 1: CL05A106MP5NUNC; Tolerance: 20%; Package: 0402; ComponentLink1Description: Datasheet; Value: 10uF; Voltage: 10V; Temperature Coefficient: X5R; Supplier 1: Digi-Key; Supplier Part Number 1: 1276-1450-1-ND; Operating Temperature: -55°C ~ 85°C
simulation model CAP (Capacitor)
signal-integrity model Cap
footprint CAPC1005L_0402 (Chip Capacitor, Body 1.0x0.5mm, IPC High Density)
pins: 1, 2

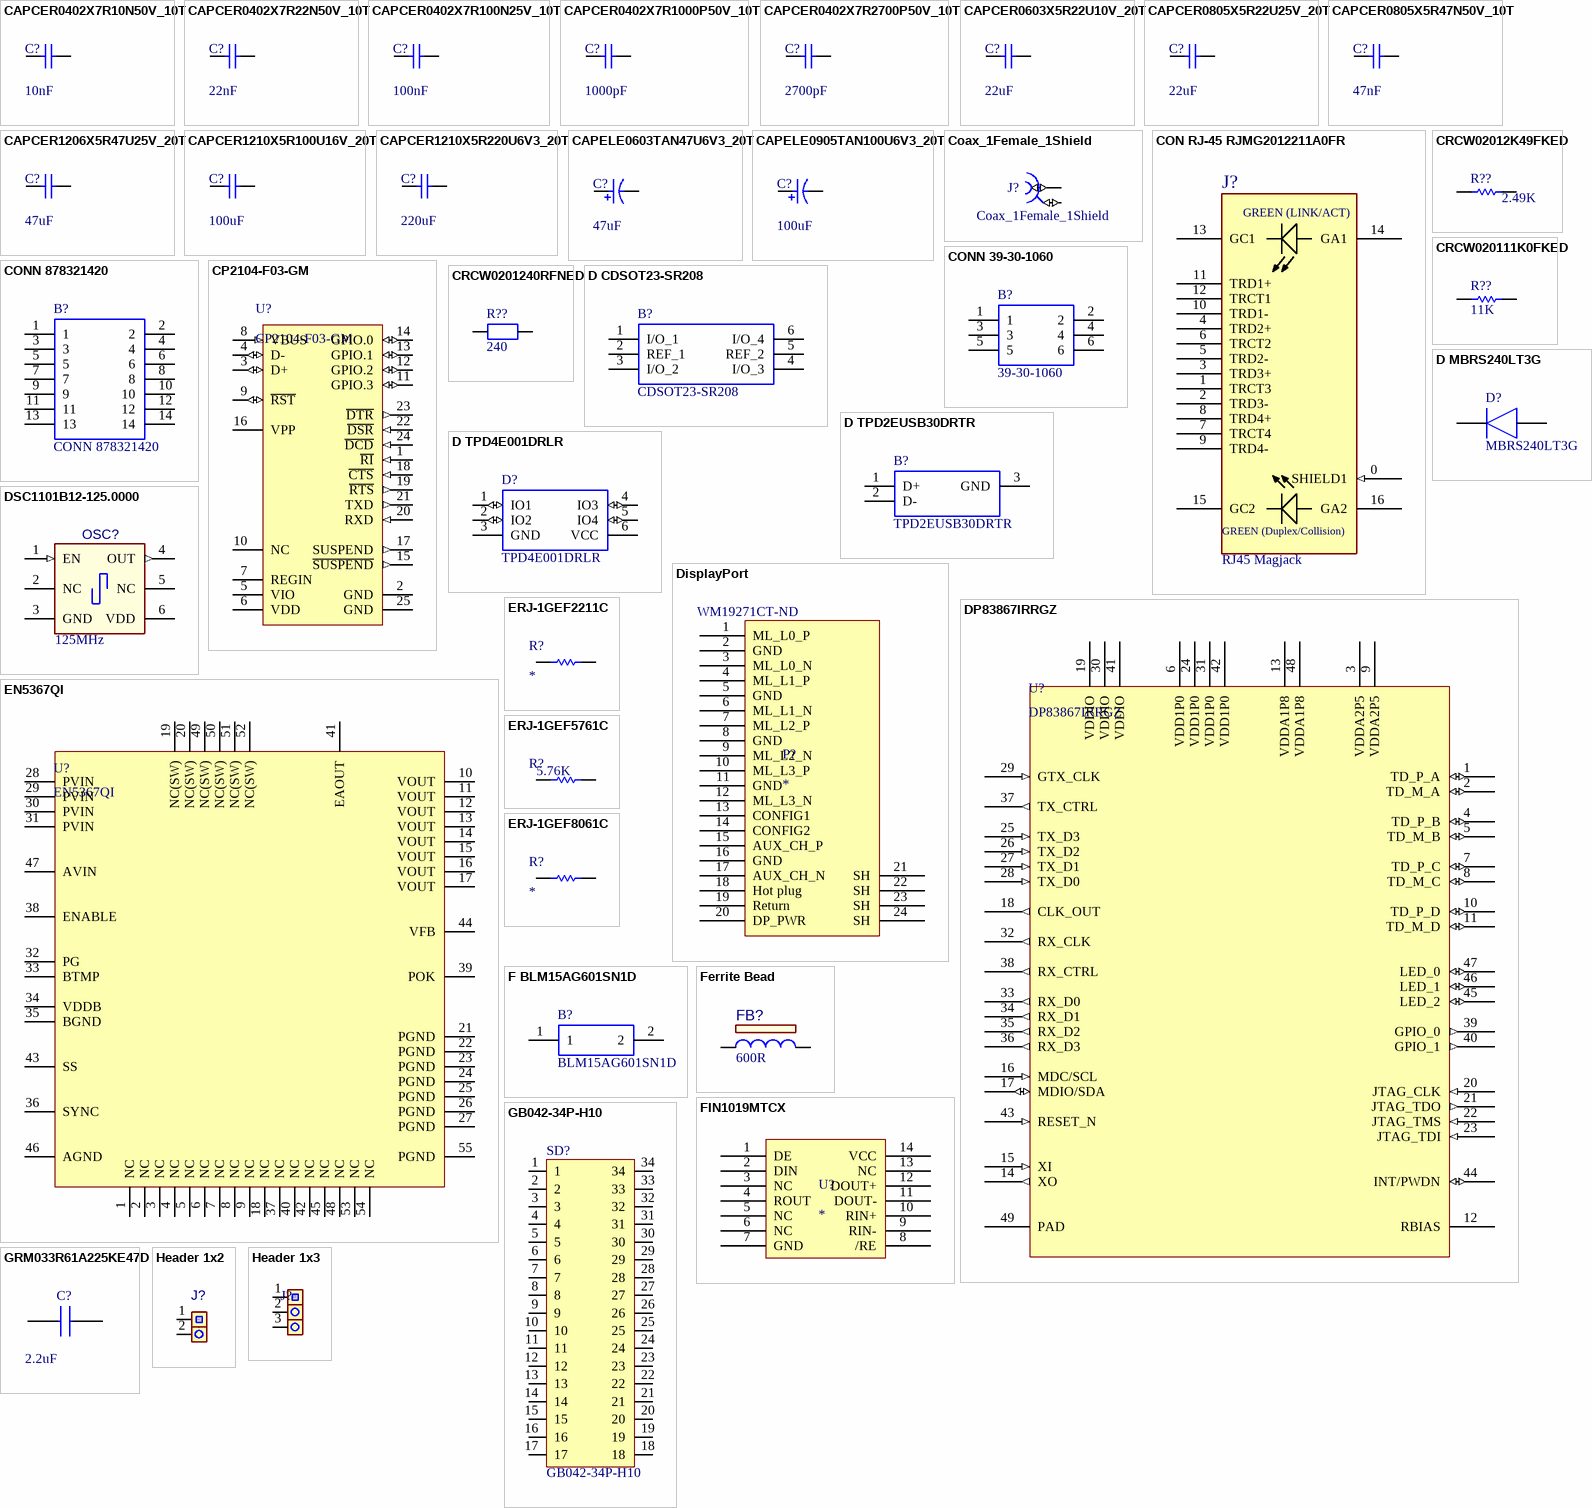
[diagram p1: symbols CAPCER0402X7R10N50V_10T to Header 1x3]

## CAPCER0402X7R10N50V_10T
designator C?, comment 10nF
CAP CER 10000PF (10NF) 50V X7R 0402; Manufacturer 1: Murata Electronics North America; Manufacturer Part Number 1: GRM155R71H103KA88D; Tolerance: 10%; Package: 0402; ComponentLink1Description: Datasheet; Value: 10nF; Voltage: 50V; Temperature Coefficient: X7R; Supplier 1: Digi-Key; Supplier Part Number 1: 490-4516-1-ND; Operating Temperature: -55°C ~ 125°C
simulation model CAP (Capacitor)
signal-integrity model Cap
footprint CAPC1005L_0402 (Chip Capacitor, Body 1.0x0.5mm, IPC High Density)
pins: 1, 2

## CAPCER0402X7R22N50V_10T
designator C?, comment 22nF
CAP CER 0.022UF 50V X7R 0402; Manufacturer 1: Murata Electronics North America; Manufacturer Part Number 1: GRM155R71H223KA12D; Tolerance: 10%; Package: 0402; ComponentLink1Description: Datasheet; Value: 22nF; Voltage: 50V; Temperature Coefficient: X7R; Supplier 1: Digi-Key; Supplier Part Number 1: 490-3884-1-ND; Operating Temperature: -55°C ~ 125°C
simulation model CAP (Capacitor)
signal-integrity model Cap
footprint CAPC1005L_0402 (Chip Capacitor, Body 1.0x0.5mm, IPC High Density)
pins: 1, 2

## CAPCER0402X7R100N25V_10T
designator C?, comment 100nF
CAP CER 0.1UF 25V X7R 0402; Manufacturer 1: Murata Electronics North America; Manufacturer Part Number 1: GRM155R71E104KE14D; Tolerance: 10%; Package: 0402; ComponentLink1Description: Datasheet; Value: 100nF; Voltage: 25V; Temperature Coefficient: X7R; Supplier 1: Digi-Key; Supplier Part Number 1: 490-10698-1-ND; Operating Temperature: -55°C ~ 125°C
simulation model CAP (Capacitor)
signal-integrity model Cap
footprint CAPC1005L_0402 (Chip Capacitor, Body 1.0x0.5mm, IPC High Density)
pins: 1, 2

## CAPCER0402X7R1000P50V_10T
designator C?, comment 1000pF
CAP CER 1000PF 50V X7R 0402; Manufacturer 1: Murata Electronics North America; Manufacturer Part Number 1: GRM155R71H102KA01D; Tolerance: 10%; Package: 0402; ComponentLink1Description: Datasheet; Value: 1000pF; Voltage: 50V; Temperature Coefficient: X7R; Supplier 1: Digi-Key; Supplier Part Number 1: 490-1303-1-ND; Operating Temperature: -55°C ~ 125°C
simulation model CAP (Capacitor)
signal-integrity model Cap
footprint CAPC1005L_0402 (Chip Capacitor, Body 1.0x0.5mm, IPC High Density)
pins: 1, 2

## CAPCER0402X7R2700P50V_10T
designator C?, comment 2700pF
CAP CER 2700PF 50V X7R 0402; Manufacturer 1: Murata Electronics North America; Manufacturer Part Number 1: GRM155R71H272KA01D; Tolerance: 10%; Package: 0402; ComponentLink1Description: Datasheet; Value: 2700pF; Voltage: 50V; Temperature Coefficient: X7R; Supplier 1: Digi-Key; Supplier Part Number 1: 490-1306-1-ND; Operating Temperature: -55°C ~ 125°C
simulation model CAP (Capacitor)
signal-integrity model Cap
footprint CAPC1005L_0402 (Chip Capacitor, Body 1.0x0.5mm, IPC High Density)
pins: 1, 2

## CAPCER0603X5R22U10V_20T
designator C?, comment 22uF
CAP CER 22UF 10V X5R 0603; Manufacturer 1: TDK Corporation; Manufacturer Part Number 1: C1608X5R1A226M080AC; Tolerance: 20%; Package: 0603; ComponentLink1Description: Datasheet; Value: 22uF; Voltage: 10V; Temperature Coefficient: X5R; Supplier 1: Digi-Key; Supplier Part Number 1: 445-9077-1-ND; Operating Temperature: -55°C ~ 85°C
simulation model CAP (Capacitor)
signal-integrity model Cap
footprint CAPC1608L_0603 (Chip Capacitor, Body 1.6x0.8mm, IPC High Density)
pins: 1, 2

## CAPCER0805X5R22U25V_20T
designator C?, comment 22uF
CAP CER 22UF 25V X5R 0805; Manufacturer 1: Samsung Electro-Mechanics America, Inc.; Manufacturer Part Number 1: CL21A226MAQNNNE; Tolerance: 20%; Package: 0805; ComponentLink1Description: Datasheet; Value: 22uF; Voltage: 25V; Temperature Coefficient: X5R; Supplier 1: Digi-Key; Supplier Part Number 1: 1276-2908-1-ND; Operating Temperature: -55°C ~ 85°C
simulation model CAP (Capacitor)
signal-integrity model Cap
footprint CAPC2012L_0805 (Chip Capacitor, Body 2.0x1.3mm, IPC High Density)
pins: 1, 2

## CAPCER0805X5R47N50V_10T
designator C?, comment 47nF
CAP CER 0.047UF 50V X7R 0805; Manufacturer 1: Kemet; Manufacturer Part Number 1: C0805C473K5RACTU; Tolerance: 10%; Package: 0805; ComponentLink1Description: Datasheet; Value: 47nF; Voltage: 50V; Temperature Coefficient: X7R; Supplier 1: Digi-Key; Supplier Part Number 1: 399-1166-1-ND; Operating Temperature: -55°C ~ 125°C
simulation model CAP (Capacitor)
signal-integrity model Cap
footprint CAPC2012L_0805 (Chip Capacitor, Body 2.0x1.3mm, IPC High Density)
pins: 1, 2

## CAPCER1206X5R47U25V_20T
designator C?, comment 47uF
CAP CER 47UF 25V X5R 1206; Manufacturer 1: TDK Corporation; Manufacturer Part Number 1: C3216X5R1E476M160AC; Tolerance: 20%; Package: 1206; ComponentLink1Description: Datasheet; Value: 47uF; Voltage: 25V; Temperature Coefficient: X5R; Supplier 1: Digi-Key; Supplier Part Number 1: 445-8047-1-ND; Operating Temperature: -55°C ~ 85°C
simulation model CAP (Capacitor)
signal-integrity model Cap
footprint CAPC3216L_1206 (Chip Capacitor, Body 3.2x1.6mm, IPC High Density)
pins: 1, 2

## CAPCER1210X5R100U16V_20T
designator C?, comment 100uF
CAP CER 100UF 16V X5R 1210; Manufacturer 1: Taiyo Yuden; Manufacturer Part Number 1: EMK325ABJ107MM-T; Tolerance: 20%; Package: 1210; ComponentLink1Description: Datasheet; Value: 100uF; Voltage: 16V; Temperature Coefficient: X5R; Supplier 1: Digi-Key; Supplier Part Number 1: 587-3152-1-ND; Operating Temperature: -55°C ~ 85°C
simulation model CAP (Capacitor)
signal-integrity model Cap
footprint CAPC3225N_1210 (Chip Capacitor, Body 3.2x2.5mm, IPC Medium Density)
pins: 1, 2

## CAPCER1210X5R220U6V3_20T
designator C?, comment 220uF
CAP CER 220UF 6.3V X5R 1210; Manufacturer 1: Samsung Electro-Mechanics America, Inc.; Manufacturer Part Number 1: CL32A227MQVNNNE; Tolerance: 20%; Package: 1210; ComponentLink1Description: Datasheet; Value: 220uF; Voltage: 6.3V; Temperature Coefficient: X5R; Supplier 1: Digi-Key; Supplier Part Number 1: 1276-3375-1-ND; Operating Temperature: -55°C ~ 85°C
simulation model CAP (Capacitor)
signal-integrity model Cap
footprint CAPC3225N_1210 (Chip Capacitor, Body 3.2x2.5mm, IPC Medium Density)
pins: 1, 2

## CAPELE0603TAN47U6V3_20T
designator C?, comment 47uF
CAP TANT POLY 47UF 6.3V SMD; Manufacturer 1: AVX Corporation; Manufacturer Part Number 1: F380J476MMAAXE; Tolerance: 20%; Temperature Coefficient: Tantalum; ESR: 300 mOhm; Package: 0603 M; ComponentLink1Description: Datasheet; ComponentLink1URL: C:\Users\Public\Documents\Altium\AD16\Library\PDF\f38.pdf; Value: 47uF; Voltage: 6.3V; Supplier 1: Digi-Key; Supplier Part Number 1: 478-9399-1-ND; Operating Temperature: -55°C ~ 105°C
simulation model CAP (Capacitor)
signal-integrity model Cap
footprint AVX_TAN_F38_M_0603 (AVX F38 Series Tantalum Cap. M Package)
pins: 1, 2

## CAPELE0905TAN100U6V3_20T
designator C?, comment 100uF
CAP TANT 100UF 6.3V 20% 0805; Manufacturer 1: AVX Corporation; Manufacturer Part Number 1: F950J107MPAAQ2; Temperature Coefficient: Tantalum; ESR: 1.2 Ohm; Package: 0905 P; ComponentLink1Description: Datasheet; ComponentLink1URL: C:\Users\Public\Documents\Altium\AD16\Library\PDF\F95.pdf; Value: 100uF; Voltage: 6.3V; Tolerance: 20%; Supplier 1: Digi-Key; Supplier Part Number 1: 478-8393-1-ND; Operating Temperature: -55°C ~ 125°C
simulation model CAP (Capacitor)
signal-integrity model Cap
footprint AVX_TAN_F95_P_0905 (AVX F95 Series Tantalum Cap. P Package)
pins: 1, 2

## Coax_1Female_1Shield
designator J?
Part Number: HUBER-SUHNER_82_SMA-50-0-41/133_NE; Part Description: SMA 50 Ohms Straight PCB Jack; Manufacturer: AMPHENOL CONNEX; Manufacturer Part Number: 132134; Table: Miscellaneous; Component Kind: Standard; Component Type: Standard; Footprint: HUBER-SUHNER_82 SMA-50-0-41/133 NE; Pin Count: 2; Family: SMA; Mounted: Yes; Socket: No; SMD: No; Status: None; ComponentHeight: 9.6mm; HelpURL: \\cern.ch\dfs\Applications\Altium\Datasheets\HUBER-SUHNER_82 SMA-50-0-41-133 NE.pdf; Author: CERN DEM JLC; CreateDate: 20.04.2010; LatestRevisionDate: 27.04.2010; Supplier: Farnell; RoHS: YES; Supplier Part Number: 2112465
footprint HUBER-SUHNER_82 SMA-50-0-41/133 NE
pins: 1 (io), 2 (io)

## CON RJ-45 RJMG2012211A0FR
designator J?, comment RJ45 Magjack
CON RJ-45 RJMG2012211A0FR; Manufacturer 1: Amphenol Commercial Products; Populated: Yes; Description_: CON MODULAR RJ45 MAGJACK TH R/A; Manufacturer Part Number 1: RJMG2012211A0FR; RoHS: RoHS Compliant; ComponentLink1URL: https://www.amphenolcanada.com/ProductSearch/Drawings/AC/RJMG2012211A0FR.PDF; ComponentLink1Description: Datasheet; Supplier 1: Digikey; Supplier Part Number 1: RJMG2012211A0FR-ND; Value: RJ45 Magjack
footprint CON_MODULAR_RJ45_TH_RA_RJMG2012211A0FR
pins: 0 SHIELD1 (in), 1 TRCT3, 2 TRD3-, 3 TRD3+, 4 TRD2+, 5 TRD2-, 6 TRCT2, 7 TRCT4, 8 TRD4+, 9 TRD4-, 10 TRD1-, 11 TRD1+, 12 TRCT1, 13 GC1, 14 GA1, 15 GC2, 16 GA2
text: GREEN (LINK/ACT); GREEN (Duplex/Collision)

## CONN 39-30-1060
designator B?, comment 39-30-1060
6 way r/a PCB header w/peg,Mini-Fit Jr Molex MINI-FIT JR. Series, Series Number 5569, 4.2mm Pitch 6 Way 2 Row Shrouded Right Angle PCB Header, Through Hole; Geometry.Height: mm; Detailed Description: 6 Positions Header Connector 0.165" (4.20mm) Through Hole, Right Angle Tin; Pitch - Mating: 0.165" (4.20mm); Number of Positions: 6; Number of Positions Loaded: All; Style: Board to Cable/Wire; Shrouding: Shrouded - 4 Wall; Contact Length - Post: 0.142" (3.60mm); Material Flammability Rating: UL94 V-2; Manufacturer_Name: Molex; Manufacturer_Part_Number: 39-30-1060; Datasheet Link: http://uk.rs-online.com/web/p/products/5109859; Digi-Key Part Number: WM1353-ND; Connector Type: Header; Contact Type: Male Pin; Number of Rows: 2; Row Spacing - Mating: 0.165" (4.20mm); Mounting Type: Through Hole, Right Angle; Termination: Solder; Fastening Type: Locking Ramp; Insulation Height: 0.378" (9.60mm); Contact Shape: Square; Contact Finish - Mating: Tin; Contact Finish Thickness - Mating: 100µin (2.54µm); Contact Finish - Post: Tin; Contact Material: Brass; Insulation Material: Polyamide (PA66), Nylon 6/6; Features: Board Lock; Contact Finish Thickness - Post: 100µin (2.54µm); Supplier 1: Digi-Key; Supplier Part Number 1: WM1353-ND
footprint 39-30-1060
pins: 1, 2, 3, 4, 5, 6

## CONN 878321420
designator B?
Molex MILLI-GRID Series, Series Number 87832, 2mm Pitch 14 Way 2 Row Straight PCB Header, Solder Termination, 2A; Manufacturer_Part_Number: 87832-1420; Geometry.Height: mm; Detailed Description: 14 Positions Header Connector 0.079" (2.00mm) Surface Mount Gold; Pitch - Mating: 0.079" (2.00mm); Number of Positions: 14; Number of Positions Loaded: All; Style: Board to Board or Cable; Shrouding: Shrouded - 4 Wall; Contact Length - Mating: 0.141" (3.60mm); Material Flammability Rating: UL94 V-0; Manufacturer_Name: Molex; Datasheet Link: http://www.molex.com/pdm_docs/sd/878321420_sd.pdf; Digi-Key Part Number: WM18641-ND; Connector Type: Header; Contact Type: Male Pin; Number of Rows: 2; Row Spacing - Mating: 0.079" (2.00mm); Mounting Type: Surface Mount; Termination: Solder; Fastening Type: Latch Holder; Insulation Height: 0.252" (6.40mm); Contact Shape: Square; Contact Finish - Mating: Gold; Contact Finish Thickness - Mating: 74.8µin (1.90µm); Contact Finish - Post: Tin; Contact Material: Phosphor Bronze; Insulation Material: Polyamide (PA), Nylon, Glass Filled; Features: Board Guide; Insulation Color: Black; Supplier 1: Digi-Key; Supplier Part Number 1: WM18641-ND
footprint 87832-1420
pins: 1, 2, 3, 4, 5, 6, 7, 8, 9, 10, 11, 12, 13, 14

## CP2104-F03-GM
designator U?
Single-Chip USB to UART Bridge, 4 Dig I/O Pins, Internal Oscillator, 1024 Bytes EEPROM, -40 to 85 degC, 24-pin QFN; Manufacturer 1: Silicon Labs; Internal Oscillator: TRUE; Sub-Family: USB Bridges; DatasheetVersion: Rev. 1.0; PackageReference: QFN-24; PackageDescription: 24-Pin Quad-Flat No-Leads Package, Body 4 x 4 mm, Pitch 0.5 mm; Supplier 1: Digi-Key; Supplier Part Number 1: 336-2008-5-ND; Supplier 2: Mouser; Supplier Part Number 2: 634-CP2104-F03-GM; EEPROM: 1024 Bytes; Mounting Technology: Surface Mount; Code_JEDEC: MO-220; Code_IPC: J-STD-020; Manufacturer Part Number 1: CP2104-F03-GM; ComponentLink1Description: Manufacturer URL; ComponentLink1URL: http://www.silabs.com/; ComponentLink2Description: Datasheet; ComponentLink2URL: C:\Users\Public\Documents\Altium\AD16\Library\PDF\cp2104.pdf; ComponentLink3Description: Package Specification; ComponentLink3URL: http://www.silabs.com/Support%20Documents/TechnicalDocs/C8051F93x-92x.pdf; Operating Temperature: -40°C ~ 85°C
footprint SLAB-QFN-24-2675x2675TP_L (QFN, 24-Leads, Body 4x4mm, Pitch 0.5mm, Thermal Pad 2.68x2.68mm, IPC High Density)
pins: 1 ~{RI} (in) "Ring Indicator control input (active low)", 2 GND (power) "Ground. Must be tied to ground.", 3 D+ (io) "USB D+", 4 D- (io) "USB D-", 5 VIO (power) "I/O Supply Voltage Input.", 6 VDD (power) "Power Supply Voltage Input. Voltage Regulator Output. See Section 9.", 7 REGIN (power) "5 V Regulator Input. This pin is the input to the on-chip voltage regulator.", 8 VBUS (in) "VBUS Sense Input. This pin should be connected to the VBUS signal of a USB network.", 9 ~{RST} (io) "Device Reset. Open-drain output of internal POR or VDD monitor. An external source can initiate a system reset by driving this pin low for the time specified in Table 4.", 10 NC "This pin should be left unconnected or tied to VIO.", 11 GPIO.3 (io) "User-configurable input or output.", 12 GPIO.2 (io) "User-configurable input or output.", 13 GPIO.1 (io) "User-configurable input or output.", 14 GPIO.0 (io) "User-configurable input or output.", 15 ~{SUSPEND} (out) "This pin is logic low when the CP2104 is in the USB Suspend state.", 16 VPP "Connect a 4.7 uF capacitor between this pin and ground to support ROM programming via USB interface.", 17 SUSPEND (out) "This pin is logic high when the CP2104 is in the USB Suspend state.", 18 ~{CTS} (in) "Clear to Send control input (active low)", 19 ~{RTS} (out) "Ready to Send control output (active low)", 20 RXD (in) "Asynchronous data input (UART Receive)", 21 TXD (out) "Asynchronous data output (UART Transmit)", 22 ~{DSR} (in) "Data Set Ready control input (active low)", 23 ~{DTR} (out) "Data Terminal Ready control output (active low)", 24 ~{DCD} (in) "Data Carrier Detect control input (active low)", 25 GND (power)

## CRCW02012K49FKED
designator R??  value 2.49K  (hidden comment: CRCW02012K49FKED)
RES 2.49K OHM 0201 1% 1/20W; Manufacturer: Vishay; Resistance_In_Ohms: 22.0; Power_(Watts): 0.05W, 1/20W; Tolerance: Â±1%; Lead_Style: Surface Mount (SMD - SMT); Voltage_-_Working: 30V; Temperature_Coefficient: Â±200ppm/Â°C; C: Copyright (C) 2015 Accelerated Designs. All rights reserved; Digi-Key Part Number: 541-2.49KAABCT-ND; Manufacturer Part Number: CRCW02012K49FKED; Quantity_Available: 0; Copyright: Copyright (C) 2015 Accelerated Designs. All rights reserved; DataSheet: http://www.vishay.com/doc?20035; Case: 0201 (0603 metric); Packaging: Tape &amp; Reel (TR); Composition: Thick Film; Supplier 1: Digi-Key; Supplier Part Number 1: 541-2.49KAABCT-ND
footprint RC0201N
pins: 1, 2

## CRCW020111K0FKED
designator R??  value 11K  (hidden comment: CRCW020111K0FKED)
RES 11.0K OHM 0201 1% 1/20W; Manufacturer: Vishay; C: Copyright (C) 2015 Accelerated Designs. All rights reserved; Manufacturer Part Number: CRCW020111K0FKED; Copyright: Copyright (C) 2015 Accelerated Designs. All rights reserved; Supplier 1: Digi-Key; Supplier Part Number 1: 541-11.0KAABCT-ND
footprint RES_V0201
pins: 1, 2

## CRCW0201240RFNED
designator R??  value 240  (hidden comment: CRCW0201240RFNED)
VISHAY - CRCW0201240RFNED - RES, THICK FILM, 240R, 1%, 0.05W, 0201; Geometry.Height: 0.28mm; Supplier_Name: RS; RS Part Number: *; Manufacturer: Vishay; Manufacturer Part Number: CRCW0201240RFNED; Allied_Number: *; Other Part Number: *; Datasheet Link: http://www.vishay.com/docs/20035/dcrcwe3.pdf; 3D Package: *; Supplier 1: Digi-Key; Supplier Part Number 1: 541-2949-1-ND
footprint RESC0603X28N
pins: 1, 2

## D CDSOT23-SR208
designator B?, comment CDSOT23-SR208
ESD Suppressors / TVS Diodes STEERING DIODE ARRAY; Manufacturer_Name: Bourns; Geometry.Height: 1.3mm; Unidirectional Channels: 4; Voltage - Reverse Standoff (Typ): 20V; Power Line Protection: No; Manufacturer_Part_Number: CDSOT23-SR208; Datasheet Link: https://www.bourns.com/docs/Product-Datasheets/CDSOT23-SR208.pdf; Digi-Key Part Number: CDSOT23-SR208CT-ND; Type: Steering; Operating Temperature: -55°C ~ 150°C (TJ); Mounting Type: Surface Mount; Package / Case: SOT-23-6; Supplier Device Package: SOT-23-6; Supplier 1: Digi-Key; Supplier Part Number 1: CDSOT23-SR208CT-ND
footprint SOT95P280X130-6N
pins: 1 I/O_1, 2 REF_1, 3 I/O_2, 4 I/O_3, 5 REF_2, 6 I/O_4
1 alternate drawing of the same symbol

## D MBRS240LT3G
designator D?, comment MBRS240LT3G
DIODE SCHOTTKY 40V 2A SMB; Manufacturer_Name: ON Semiconductor; Allied_Number: 70099506; Geometry.Height: 2.47mm; Supplier_Name: RS; RS Part Number: 1022262; Manufacturer_Part_Number: MBRS240LT3G; Other Part Number: *; Datasheet Link: http://www.onsemi.com/pub/Collateral/MBRS240LT3-D.PDF; 3D Package: *; Supplier 1: Digi-Key; Supplier Part Number 1: MBRS240LT3GOSCT-ND
footprint DIOM5436X247N
pins: 1 K, 2 A